# EAGLE library part 315-5912 (library 2010.09.20)
The 315-5912 Paging Chip The 315-5912 is known to support 8M. It is unknown whether this chip supports SRAM. Information from SMSPower.org Master System 8Mbit Eprom Cart for Sonic Blast <http://www.smspower.org/forums/viewtopic.php?t=10906>, SEGA GameGear Flash Cart - Custom Electronics <http://www.smspower.org/forums/viewtopic.php?t=12604>; as provided by jpx072, Gerry_MAN, Paul Baker, et. all Drawn by Darren Lue Choy 2011.02.12 output pinout BA# corrected 2011.03.04 µ2011
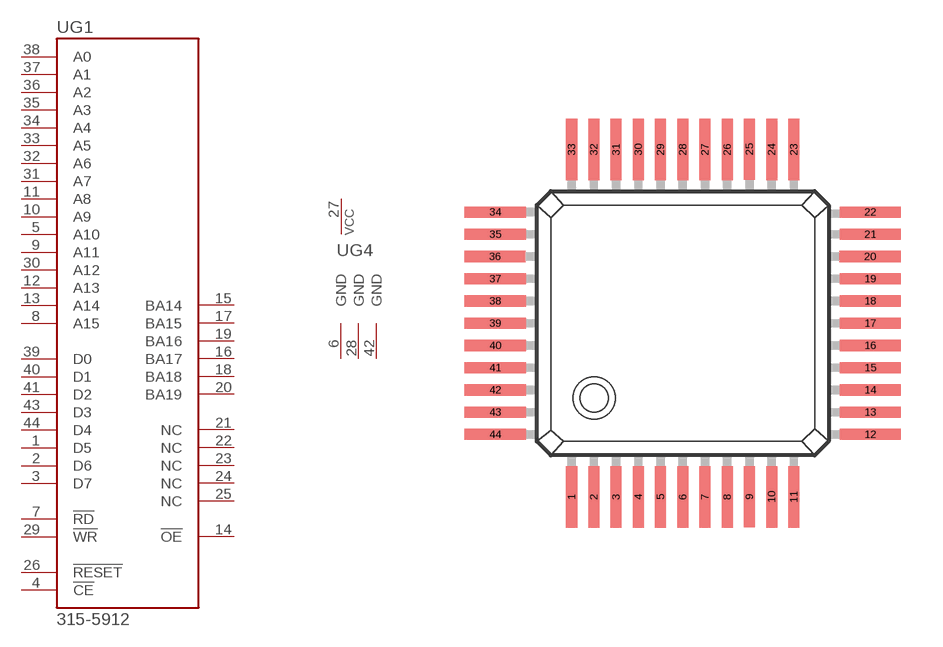
[diagram p10: symbol with the pads of QFP-44; footprint QFP-44]

Designator prefix -; gates G1=315-5912 G2=PWRGND G3=PWRGND G4=PWRVCC G5=PWRGND

## 315-5912  [QFP-44]
1  G1:D5  in
2  G1:D6  in
3  G1:D7  in
4  G1:!CE  in
5  G1:A10  in
6  G2:GND  pwr
7  G1:!RD  in
8  G1:A15  in
9  G1:A11  in
10  G1:A9  in
11  G1:A8  in
12  G1:A13  in
13  G1:A14  in
14  G1:!OE  out
15  G1:BA14  out
16  G1:BA17  out
17  G1:BA15  out
18  G1:BA18  out
19  G1:BA16  out
20  G1:BA19  out
21  G1:NC  out
22  G1:NC  out
23  G1:NC  out
24  G1:NC  out
25  G1:NC  out
26  G1:!RESET  in
27  G4:VCC  pwr
28  G3:GND  pwr
29  G1:!WR  in
30  G1:A12  in
31  G1:A7  in
32  G1:A6  in
33  G1:A5  in
34  G1:A4  in
35  G1:A3  in
36  G1:A2  in
37  G1:A1  in
38  G1:A0  in
39  G1:D0  in
40  G1:D1  in
41  G1:D2  in
42  G5:GND  pwr
43  G1:D3  in
44  G1:D4  in

## Footprint QFP-44 (pad centres in mm)
Quad Flat Package Taken QFP-44 from ref-packages.lbr
smd 0.4 x 2.2: 1 -4,-6.25; 2 -3.2,-6.25; 3 -2.4,-6.25; 4 -1.6,-6.25; 5 -0.8,-6.25; 6 0,-6.25; 7 0.8,-6.25; 8 1.6,-6.25; 9 2.4,-6.24; 10 3.2,-6.25; 11 4,-6.25; 23 4,6.25; 24 3.2,6.25; 25 2.4,6.26; 26 1.6,6.25; 27 0.8,6.25; 28 0,6.25; 29 -0.8,6.25; 30 -1.6,6.25; 31 -2.4,6.25; 32 -3.2,6.25; 33 -4,6.25
smd 2.2 x 0.4: 12 6.75,-4; 13 6.75,-3.2; 14 6.75,-2.4; 15 6.75,-1.6; 16 6.75,-0.8; 17 6.75,0; 18 6.75,0.8; 19 6.75,1.6; 20 6.74,2.4; 21 6.75,3.2; 22 6.75,4; 34 -6.75,4; 35 -6.75,3.2; 36 -6.76,2.4; 37 -6.75,1.6; 38 -6.75,0.8; 39 -6.75,0; 40 -6.75,-0.8; 41 -6.75,-1.6; 42 -6.75,-2.4; 43 -6.75,-3.2; 44 -6.75,-4